# Altium footprint library GM802封装.PcbLib: 1 footprints
Each footprint in its own frame and in the unit in brackets; x right, y up, seen from the top. Pads: shape width x height; smd on the part's side, far side on the other; paste and mask are expansions set on the pad; w line width, h text height; cw(c..) or ccw(c..) is an arc to the next point about the centre after c.
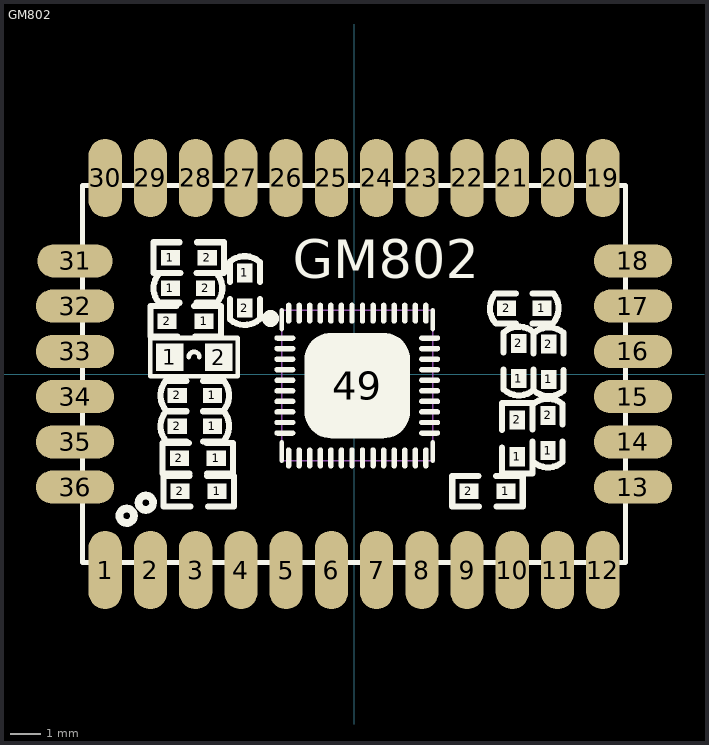
[diagram p0: the footprint, top view; thin cyan lines are the x and y axes]

## GM802 [mm]
height 10
pads (115):
  oval 1.1x2.6 smd: 1(-8.25,-6.5) 2(-6.75,-6.5) 3(-5.25,-6.5) 4(-3.75,-6.5) 5(-2.25,-6.5) 6(-0.75,-6.5) 7(0.75,-6.5) 8(2.25,-6.5) 9(3.75,-6.5) 10(5.25,-6.5) 11(6.75,-6.5) 12(8.25,-6.5) 19(8.25,6.5) 20(6.75,6.5) 21(5.25,6.5) 22(3.75,6.5) 23(2.25,6.5) 24(0.75,6.5) 25(-0.75,6.5) 26(-2.25,6.5) 27(-3.75,6.5) 28(-5.25,6.5) 29(-6.75,6.5) 30(-8.25,6.5)
  rect 0.914x0.914 on Top Overlay: 1(-6.115,0.557) 2(-4.489,0.557)
  rect 0.635x0.508 on Top Overlay: 1(-6.09,2.843) 1(-6.09,3.859) 1(-4.972,1.751) 1(-4.693,-1.729) 1(-4.693,-0.713) 1(-4.566,-2.796) 1(-4.54,-3.888) 1(5.036,-3.888) 1(6.229,2.183) 2(-6.196,1.751) 2(-5.861,-1.729) 2(-5.861,-0.713) 2(-5.79,-2.796) 2(-5.764,-3.888) 2(-4.921,2.843) 2(-4.865,3.859) 2(3.811,-3.888) 2(5.061,2.183)
  rect 0.508x0.635 on Top Overlay: 1(-3.626,3.351) 1(5.417,-2.745) 1(5.467,-0.154) 1(6.433,-2.542) 1(6.458,-0.179) 2(-3.626,2.183) 2(5.417,-1.521) 2(5.467,1.014) 2(6.433,-1.373) 2(6.458,0.989)
  oval 0.7x0.18 on Top Overlay: 1(-2.292,1.192) 2(-2.292,0.842) 3(-2.292,0.492) 4(-2.292,0.142) 5(-2.292,-0.208) 6(-2.292,-0.558) 7(-2.292,-0.908) 8(-2.292,-1.258) 9(-2.292,-1.608) 10(-2.292,-1.958) 25(2.508,-1.958) 26(2.508,-1.608) 27(2.508,-1.258) 28(2.508,-0.908) 29(2.508,-0.558) 30(2.508,-0.208) 31(2.508,0.142) 32(2.508,0.492) 33(2.508,0.842) 34(2.508,1.192)
  oval 0.18x0.7 on Top Overlay: 11(-2.167,-2.783) 12(-1.817,-2.783) 13(-1.467,-2.783) 14(-1.117,-2.783) 15(-0.767,-2.783) 16(-0.417,-2.783) 17(-0.067,-2.783) 18(0.283,-2.783) 19(0.633,-2.783) 20(0.983,-2.783) 21(1.333,-2.783) 22(1.683,-2.783) 23(2.033,-2.783) 24(2.383,-2.783) 35(2.383,2.017) 36(2.033,2.017) 37(1.683,2.017) 38(1.333,2.017) 39(0.983,2.017) 40(0.633,2.017) 41(0.283,2.017) 42(-0.067,2.017) 43(-0.417,2.017) 44(-0.767,2.017) 45(-1.117,2.017) 46(-1.467,2.017) 47(-1.817,2.017) 48(-2.167,2.017)
  oval 2.6x1.1 smd: 13(9.25,-3.75) 14(9.25,-2.25) 15(9.25,-0.75) 16(9.25,0.75) 17(9.25,2.25) 18(9.25,3.75) 32(-9.25,2.25) 33(-9.25,0.75) 34(-9.25,-0.75) 35(-9.25,-2.25) 36(-9.25,-3.75)
  oval 2.5x1.1 smd: 31(-9.25,3.75)
  rrect50% 3.5x3.5 on Top Overlay: 49(0.108,-0.383)
Top Overlay:
  circle w0.5: c-2.767,1.842 r0.03
  lines w0.15: -2.392,-2.883 -2.392,-2.258 ; -2.392,1.492 -2.392,2.117 ; 2.608,-2.883 2.608,-2.258 ; 2.608,1.492 2.608,2.117
  lines w0.152: -5.48,0.557 cw(c-5.302,0.557) -5.124,0.557 ; -6.75,-0.078 -6.75,1.192 -3.854,1.192 -3.854,-0.078 -6.75,-0.078
  lines w0.178: 8.973,6.25 -9,6.25 -9,-6.25 9,-6.25 9,6.25
  lines w0.203: -6.469,2.361 -5.785,2.361 ; -6.469,2.362 cw(c-5.901,2.842) -6.469,3.322 ; -6.445,3.351 -5.785,3.351 ; -6.241,-1.25 ccw(c-5.672,-1.73) -6.217,-2.237 -5.556,-2.237 ; -6.241,-1.246 -5.556,-1.246 ; -6.241,-0.234 ccw(c-5.672,-0.714) -6.217,-1.221 -5.556,-1.221 ; -6.241,-0.23 -5.556,-0.23 ; -5.886,2.259 -6.75,2.259 -6.75,1.243 -5.861,1.243 ; -5.785,4.367 -6.648,4.367 -6.648,3.351 -5.759,3.351 ; -5.48,-2.288 -6.344,-2.288 -6.344,-3.304 -5.455,-3.304 ; -5.455,-3.38 -6.318,-3.38 -6.318,-4.396 -5.429,-4.396 ; -5.302,2.259 -4.413,2.259 -4.413,1.243 -5.277,1.243 ; -5.226,2.361 -4.541,2.361 ; -5.226,3.351 -4.566,3.351 cw(c-5.11,2.844) -4.541,2.365 ; -5.201,4.367 -4.312,4.367 -4.312,3.351 -5.175,3.351 ; -4.997,-2.237 -4.337,-2.237 ; -4.997,-1.246 -4.313,-1.246 ; -4.997,-1.221 -4.337,-1.221 ; -4.997,-0.23 -4.313,-0.23 ; -4.896,-2.288 -4.007,-2.288 -4.007,-3.304 -4.87,-3.304 ; -4.87,-3.38 -3.981,-3.38 -3.981,-4.396 -4.845,-4.396 ; -4.313,-2.207 ccw(c-4.881,-1.728) -4.313,-1.248 ; -4.313,-1.191 ccw(c-4.881,-0.712) -4.313,-0.232 ; -4.108,1.803 -4.108,2.488 ; -4.108,3.046 -4.108,3.731 ; -4.107,3.731 cw(c-3.627,3.163) -3.147,3.731 ; -4.104,1.803 ccw(c-3.625,2.371) -3.118,1.827 -3.118,2.488 ; -3.118,3.046 -3.118,3.707 ; 4.121,-3.38 3.258,-3.38 3.258,-4.396 4.147,-4.396 ; 4.681,2.661 ccw(c5.25,2.182) 4.705,1.675 5.366,1.675 ; 4.681,2.665 5.366,2.665 ; 4.705,-3.38 5.594,-3.38 5.594,-4.396 4.731,-4.396 ; 4.909,-2.44 4.909,-3.304 5.925,-3.304 5.925,-2.415 ; 4.909,-1.856 4.909,-0.967 5.925,-0.967 5.925,-1.83 ; 4.959,-0.51 4.959,0.151 ; 4.959,0.71 4.959,1.37 cw(c5.466,0.826) 5.946,1.394 ; 4.989,-0.534 ccw(c5.469,0.035) 5.949,-0.533 ; 5.925,-2.897 5.925,-2.237 ; 5.925,-1.678 5.925,-1.018 cw(c6.431,-1.562) 6.911,-0.993 ; 5.925,1.675 6.585,1.675 ; 5.925,2.665 6.609,2.665 ; 5.95,-0.535 5.95,0.125 ; 5.95,-0.533 5.95,0.151 ; 5.95,0.684 5.95,1.345 cw(c6.457,0.8) 6.936,1.369 ; 5.95,0.71 5.95,1.394 ; 5.954,-2.921 ccw(c6.434,-2.353) 6.914,-2.921 ; 5.98,-0.559 ccw(c6.459,0.009) 6.939,-0.559 ; 6.609,1.704 ccw(c6.041,2.184) 6.609,2.664 ; 6.915,-2.921 6.915,-2.237 ; 6.915,-1.678 6.915,-0.993 ; 6.941,-0.559 6.941,0.125 ; 6.941,0.684 6.941,1.369
  lines w0.254: -7.312,-4.785 cw(c-7.537,-4.701) -7.296,-4.701 ; -6.677,-4.353 cw(c-6.902,-4.269) -6.661,-4.269
  text "GM802" at -2.032,3.175 h1.27
Mechanical 15:
  lines w0.05: -2.392,-2.883 -2.392,2.117 2.608,2.117 2.608,-2.883 -2.392,-2.883
3D body: height 0.6, standoff 0.05, extent -2.392,-2.883 2.608,2.117
3D body: height 0.35, standoff 0, extent -5.97,3.611 -4.97,4.111
3D body: height 0.35, standoff 0, extent 5.165,-2.625 5.665,-1.625
3D body: height 0.35, standoff 0, extent 3.916,-4.139 4.916,-3.639
3D body: height 0.35, standoff 0, extent -6.092,1.5 -5.092,2
3D body: height 0.35, standoff 0, extent -5.66,-4.139 -4.66,-3.639
3D body: height 0.35, standoff 0, extent -5.685,-3.047 -4.685,-2.547
3D body: height 0.5, standoff 0, extent 6.187,-2.457 6.687,-1.457
3D body: height 0.5, standoff 0, extent -3.88,2.267 -3.38,3.267
3D body: height 0.5, standoff 0, extent 5.221,-0.07 5.721,0.93
3D body: height 0.5, standoff 0, extent 6.212,-0.095 6.712,0.905
3D body: height 0.5, standoff 0, extent -5.777,-1.975 -4.777,-1.475
3D body: height 0.5, standoff 0, extent -5.777,-0.959 -4.777,-0.459
3D body: height 0.5, standoff 0, extent -6.005,2.589 -5.005,3.089
3D body: height 0.5, standoff 0, extent 5.145,1.937 6.145,2.437